# Altium footprint library 6_to_14_Pin.PcbLib: 74 footprints (part 4 of 5)
Each footprint in its own frame and in the unit in brackets; x right, y up, seen from the top. Pads: shape width x height; smd on the part's side, far side on the other; paste and mask are expansions set on the pad; w line width, h text height; cw(c..) or ccw(c..) is an arc to the next point about the centre after c.
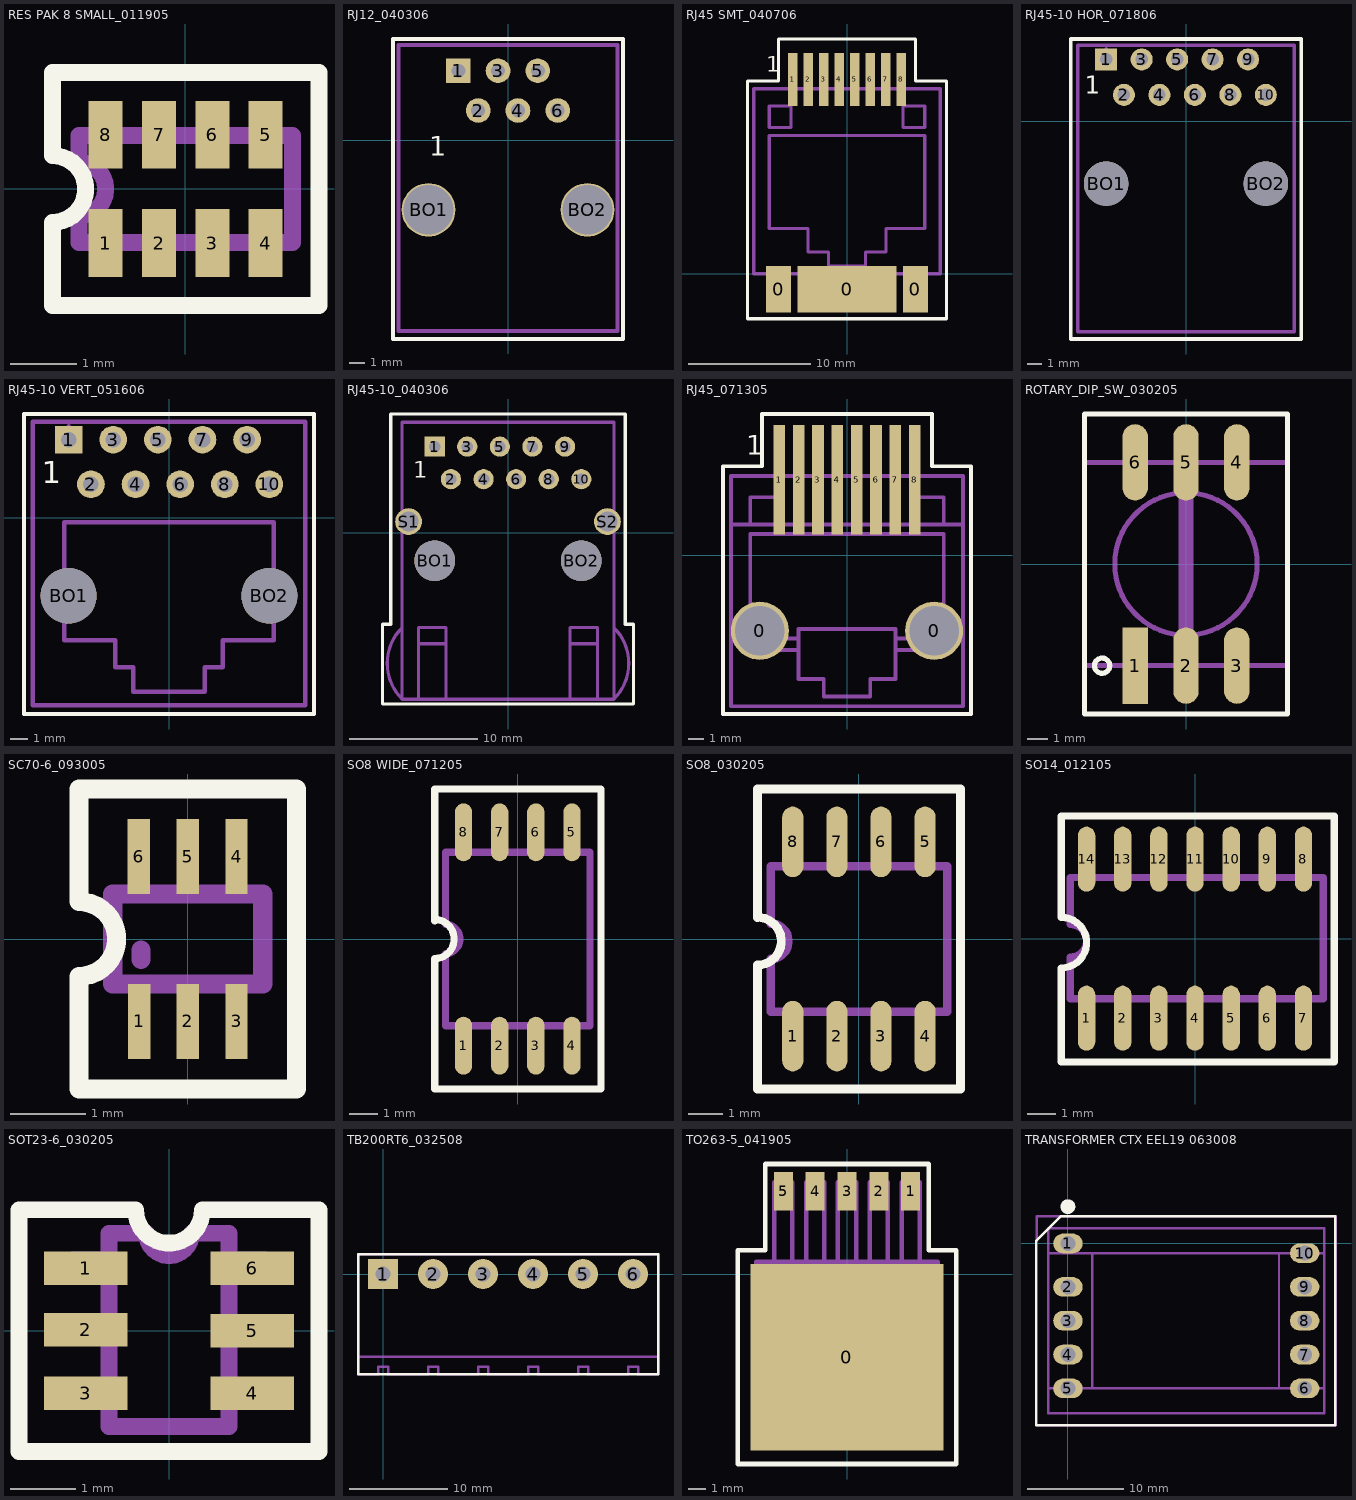
[diagram p3: the footprints below, top view; thin cyan lines are the x and y axes]

## RES PAK 8 SMALL_011905 [mil] "SMT"
height 16
pads (8):
  rect 20x40 smd mask+1.5: 1(-47,-32) 2(-15.5,-32) 3(15.99,-32) 4(47.49,-32) 5(47.49,32) 6(15.99,32) 7(-15.5,32) 8(-47,32)
Top Overlay:
  lines w10: -78.5,-69 78.98,-69 78.98,68.8 12.05,68.8 -78.5,68.8 -78.5,19.59 cw(c-78.5,-0.1) -78.5,-19.78 -78.5,-69
Assembly Outline:
  lines w10: -62.75,-31.59 63.24,-31.59 63.24,31.4 -62.75,31.4 -62.75,15.65 cw(c-62.75,-0.1) -62.75,-15.85 -62.75,-31.59
Assembly Designator:
  text ".Designator" at -80,-32 h40
Assembly Comment:
  text ".Comment" at -61,43 h40

## RJ12_040306 [mil] "TH"
height 600
pads (8):
  rect 62x62 hole 35: 1(-125,175)
  round 62 hole 35: 2(-75,75) 3(-25,175) 4(25,75) 5(75,175) 6(125,75)
  round 135 hole 125: BO1(-200,-175) BO2(200,-175)
Top Overlay:
  lines w10: 230,255 290,255 ; 290,255 290,-500 235,-500 -290,-500 -290,255 35,255 290,255
  text "1" at -197.84,-39.13 h50
Assembly Outline:
  lines w10: -275,-480 -275,240 275,240 275,-175 275,-480 -275,-480
Assembly Designator:
  text ".Designator" at -65,-195 h40
Assembly Comment:
  text ".Comment" at -155,-345 h40

## RJ45 SMT_040706 [mil] "SMT"
height 510
pads (11):
  rect 80x150 smd: 0(-220,-50) 0(220,-50)
  rect 320x150 smd: 0(0,-50)
  rect 30x170 smd mask+1.5: 1(-175,625) 2(-125,625) 3(-75,625) 4(-25,625) 5(25,625) 6(75,625) 7(125,625) 8(175,625)
Top Overlay:
  lines w10: -320,-145 320,-145 320,-20 320,390 320,620 220,620 220,755 0,755 -220,755 -220,620 -320,620 -320,390 -320,-20 -320,-145
  text "1" at -260,650 h50
Assembly Outline:
  lines w10: -250,0 -250,-80 -190,-80 -190,0 ; -180,595 -180,675 -170,675 -170,595 ; -150,0 -150,-90 0,-90 150,-90 150,0 ; -130,595 -130,675 -120,675 -120,595 ; -80,595 -80,675 -70,675 -70,595 ; -30,595 -30,675 -20,675 -20,595 ; 20,595 20,675 30,675 30,595 ; 70,595 70,675 80,675 80,595 ; 120,595 120,675 130,675 130,595 ; 170,595 170,675 180,675 180,595 ; 190,0 190,-80 250,-80 250,0 300,0 ; 300,470 300,595 ; 300,0 300,595 ; 300,0 -300,0 -300,595 300,595 ; -250,145 -250,445 0,445 250,445 250,145 125,145 125,70 60,70 60,25 0,25 -60,25 -60,70 -125,70 -125,145 -250,145 ; -250,470 -180,470 -180,540 -250,540 -250,470 ; 180,470 250,470 250,540 180,540 180,470
Assembly Designator:
  text ".Designator" at -50,305 h40
Assembly Comment:
  text ".Comment" at -130,240 h40

## RJ45-10 HOR_071806 [mil] "TH"
height 528.35
pads (12):
  rect 62x62 hole 35: 1(-225,175)
  round 62 hole 35: 2(-175,75) 3(-125,175) 4(-75,75) 5(-25,175) 6(25,75) 7(75,175) 8(125,75) 9(175,175) 10(225,75)
  round 125 hole 125 unplated: BO1(-225,-175) BO2(225,-175)
Top Overlay:
  lines w10: -325,-613.07 325,-613.07 325,-440 325,0 325,232.5 0,232.5 -325,232.5 -325,0 -325,-440 -325,-613.07
  text "1" at -285,77.5 h50
Assembly Outline:
  lines w10: -305,-420 -305,215 ; -225,175 -225,205 ; -305,215 305,215 305,-420 305,-593.07 -305,-593.07 -305,215
Assembly Designator:
  text ".Designator" at -53.03,-178.7 h40
Assembly Comment:
  text ".Comment" at -66.81,-286.97 h40

## RJ45-10 VERT_051606 [mil] "TH"
height 645
pads (12):
  rect 62x62 hole 35: 1(-225,175)
  round 62 hole 35: 2(-175,75) 3(-125,175) 4(-75,75) 5(-25,175) 6(25,75) 7(75,175) 8(125,75) 9(175,175) 10(225,75)
  round 125 hole 125 unplated: BO1(-225,-175) BO2(225,-175)
Top Overlay:
  lines w10: -325,-440 -325,0 -325,232.5 0,232.5 325,232.5 325,0 325,-440 -325,-440
  text "1" at -285,77.5 h50
Assembly Outline:
  lines w10: -225,-420 0,-420 ; -225,175 -225,205 ; -305,-420 305,-420 305,215 -305,215 -305,-420 ; -235,-275 -235,-10 0,-10 235,-10 235,-275 120,-275 120,-335 80,-335 80,-390 0,-390 -80,-390 -80,-335 -120,-335 -120,-275 -235,-275
Assembly Designator:
  text ".Designator" at -52.5,-87.5 h40
Assembly Comment:
  text ".Comment" at -207.5,-312.5 h40

## RJ45-10_040306 [mil] "TH"
height 600
pads (14):
  rect 62x62 hole 35: 1(-225,265)
  round 62 hole 35: 2(-175,165) 3(-125,265) 4(-75,165) 5(-25,265) 6(25,165) 7(75,265) 8(125,165) 9(175,265) 10(225,165)
  round 125 hole 125 unplated: BO1(-225,-85) BO2(225,-85)
  round 82 hole 62 unplated: S1(-305,35) S2(305,35)
Top Overlay:
  lines w10: -385,-525 -385,-280 -360,-280 -360,100 -360,365 360,365 360,100 360,-280 385,-280 385,-525 0,-525 -385,-525
  text "1" at -290,170 h50
Assembly Outline:
  lines w10: -325,-290 ccw(c-215,-400) -325,-510 ; -275,-510 -275,-290 -190,-290 ; -275,-340 -190,-340 -190,-290 ; -190,-510 -190,-290 ; 190,-510 190,-290 ; 275,-340 190,-340 190,-290 ; 325,-400 325,-510 ; -325,-510 325,-510 ; -325,-510 -325,-336 -325,99 -325,340 325,340 325,99 325,-336 325,-510 ; 190,-290 275,-290 275,-510 325,-510 ; 325,-510 ccw(c215,-400) 325,-290 325,-510
Assembly Designator:
  text ".Designator" at -35,-180 h40
Assembly Comment:
  text ".Comment" at -100,-260 h40

## RJ45_071305 [mil] "SMT"
height 570
pads (10):
  round 150 hole 128 mask+1.5: 0(-225,-195) 0(225,-195)
  rect 30x283 smd mask+1.5: 1(-175,195) 2(-125,195) 3(-75,195) 4(-25,195) 5(25,195) 6(75,195) 7(125,195) 8(175,195)
Top Overlay:
  lines w10: -320,-410 -320,0 -320,230 -220,230 -220,365 0,365 220,365 220,230 320,230 320,0 320,-410 225,-410 0,-410 -225,-410 -320,-410
  text "1" at -260,260 h50
Assembly Outline:
  lines w10: -300,80 300,80 300,205 ; -250,-215 -125,-215 ; -250,80 -250,150 -180,150 -180,80 ; -180,205 -180,295 -170,295 ; -175,295 -170,295 ; -170,205 -170,295 ; -130,205 -130,295 -120,295 ; -125,295 -120,295 ; -120,205 -120,295 ; -80,205 -80,295 -70,295 ; -75,295 -70,295 ; -70,205 -70,295 ; -30,205 -30,295 -20,295 ; -25,295 -20,295 ; -20,205 -20,295 ; 20,205 20,295 30,295 ; 25,295 30,295 ; 30,205 30,295 ; 70,205 70,295 80,295 ; 75,295 80,295 ; 80,205 80,295 ; 120,205 120,295 130,295 ; 125,-215 250,-215 ; 125,295 130,295 ; 130,205 130,295 ; 170,205 170,295 180,295 ; 175,295 180,295 ; 180,80 180,150 250,150 250,80 ; 180,205 180,295 ; -125,-245 -125,-190 0,-190 125,-190 125,-245 ; -125,-245 -125,-320 -60,-320 -60,-365 0,-365 60,-365 60,-320 125,-320 125,-245 ; -125,-245 -250,-245 -250,55 0,55 250,55 250,-245 125,-245 ; 300,205 -300,205 -300,-390 300,-390 300,205
Assembly Designator:
  text ".Designator" at -50,-85 h40
Assembly Comment:
  text ".Comment" at -130,-150 h40

## ROTARY_DIP_SW_030205 [mil] "SMT"
height 370
pads (6):
  rect 50x150 smd: 1(-100,-200)
  oval 50x150 smd: 2(0,-200) 3(100,-200) 4(100,200) 5(0,200) 6(-100,200)
Top Overlay:
  circle w10: c-165,-200 r15
  lines w10: -200,-295 200,-295 200,295 -200,295 -200,-295
Assembly Outline:
  circle w10: c0,0 r140
  region: -110,255 -110,200 -90,200 -90,255
  region: -10,255 -10,200 10,200 10,255
  region: 90,255 90,200 110,200 110,255
  region: 110,-255 110,-200 90,-200 90,-255
  region: -90,-255 -90,-200 -110,-200 -110,-255
  region: 10,-255 10,-200 -10,-200 -10,-255
  lines w10: -200,-200 200,-200 200,200 -200,200 -200,-200
  lines w30: 0,-130 0,130
Assembly Designator:
  text ".Designator" at -43,-77 h40
Assembly Comment:
  text ".Comment" at 186,-182 h40

## SC70-6_093005 [mm] "SMT"
height 1
pads (6):
  rect 0.3x1 smd mask+0.038: 1(-0.65,-1.1) 2(0,-1.1) 3(0.65,-1.1) 4(0.65,1.1) 5(0,1.1) 6(-0.65,1.1)
Top Overlay:
  lines w0.254: -1.45,-2 -0.375,-2 1.45,-2 1.45,0 1.45,2 0.375,2 -1.45,2 -1.45,0.5 cw(c-1.45,0) -1.45,-0.5 -1.45,-2
Assembly Outline:
  lines w0.254: -1,0 -1,0.6 ; -0.65,-1.1 -0.65,-0.6 ; -0.65,0.6 -0.65,1.1 ; -0.625,-0.275 -0.625,-0.15 ; 0,-1.1 0,-0.6 ; 0,1.1 0,0.6 -1,0.6 ; 0.65,-1.1 0.65,-0.6 ; 0.65,0.6 0.65,1.1 ; -1,-0.6 1,-0.6 ; -1,-0.6 -1,0.6 ; -1,-0.6 1,-0.6 ; -1,0.6 1,0.6 1,-0.6
Assembly Designator:
  text ".Designator" at 1.8,-0.475 h1.02
Assembly Comment:
  text ".Comment" at -1.825,-3.5 h1.02

## SO8 WIDE_071205 [mil] "SMT"
height 80
pads (8):
  oval 24x80 smd: 1(-75,-147.5) 2(-25,-147.5) 3(25,-147.5) 4(75,-147.5) 5(75,147.5) 6(25,147.5) 7(-25,147.5) 8(-75,147.5)
Top Overlay:
  lines w10: -115,25 -115,207.5 115,207.5 115,-207.5 -115,-207.5 -115,-27.04 ccw(c-115,0) -115,27.04
Assembly Outline:
  lines w10: -80,-120 -80,-147.5 -70,-147.5 -70,-120 ; -80,120 -80,147.5 -70,147.5 -70,120 ; -30,-120 -30,-147.5 -20,-147.5 -20,-120 ; -30,120 -30,147.5 -20,147.5 -20,120 ; 20,-120 20,-147.5 30,-147.5 30,-120 ; 20,120 20,147.5 30,147.5 30,120 ; 70,-120 70,-147.5 80,-147.5 80,-120 ; 70,120 70,147.5 80,147.5 80,120 ; -100,-120 100,-120 100,120 -100,120 -100,20 cw(c-100,0) -100,-20 -100,-120
Assembly Designator:
  text ".Designator" at -55,-15.5 h40
Assembly Comment:
  text ".Comment" at -116,-229.5 h40

## SO8_030205 [mil] "SMT"
height 70
pads (8):
  oval 24x80 smd: 1(-75,-110) 2(-25,-110) 3(25,-110) 4(75,-110) 5(75,110) 6(25,110) 7(-25,110) 8(-75,110)
Top Overlay:
  lines w10: -115,-170 -115,-29.54 ccw(c-115,-2.5) -115,24.54 -115,170 115,170 115,-170 -115,-170
Assembly Outline:
  lines w10: -80,-82.5 -80,-110 -70,-110 -70,-82.5 ; -80,82.5 -80,110 -70,110 -70,82.5 ; -30,-82.5 -30,-110 -20,-110 -20,-82.5 ; -30,82.5 -30,110 -20,110 -20,82.5 ; 20,-82.5 20,-110 30,-110 30,-82.5 ; 20,82.5 20,110 30,110 30,82.5 ; 70,-82.5 70,-110 80,-110 80,-82.5 ; 70,82.5 70,110 80,110 80,82.5 ; -100,-82.5 -100,-22.5 ccw(c-100,-2.5) -100,17.5 -100,82.5 100,82.5 100,-82.5 -100,-82.5
Assembly Designator:
  text ".Designator" at -55,22 h40
Assembly Comment:
  text ".Comment" at -116,-192 h40

## SO14_012105 [mil] "SMT"
height 75
pads (14):
  oval 24x90 smd: 1(-150,-110) 2(-100,-110) 3(-50,-110) 4(0,-110) 5(50,-110) 6(100,-110) 7(150,-110) 8(150,110) 9(100,110) 10(50,110) 11(0,110) 12(-50,110) 13(-100,110) 14(-150,110)
Top Overlay:
  lines w10: -185,-170.46 -185,-40.46 ccw(c-185,-5.46) -185,29.54 -185,169.54 192.5,169.54 192.5,-170.46 -185,-170.46
Assembly Outline:
  lines w10: -155,84.54 -155,112.04 -145,112.04 -145,84.54 ; -145,-82.96 -145,-110.46 -155,-110.46 -155,-82.96 ; -105,-82.96 -105,-110.46 -95,-110.46 -95,-82.96 ; -105,84.54 -105,112.04 -95,112.04 -95,84.54 ; -55,-82.96 -55,-110.46 -45,-110.46 -45,-82.96 ; -55,84.54 -55,112.04 -45,112.04 -45,84.54 ; -5,-82.96 -5,-110.46 5,-110.46 5,-82.96 ; -5,84.54 -5,112.04 5,112.04 5,84.54 ; 45,-82.96 45,-110.46 55,-110.46 55,-82.96 ; 45,84.54 45,112.04 55,112.04 55,84.54 ; 95,-82.96 95,-110.46 105,-110.46 105,-82.96 ; 95,84.54 95,112.04 105,112.04 105,84.54 ; 145,-82.96 145,-110.46 155,-110.46 155,-82.96 ; 145,84.54 145,112.04 155,112.04 155,84.54 ; -155,-82.96 -172.5,-82.96 -172.5,-25.46 ccw(c-172.5,-2.96) -172.5,19.54 -172.5,84.54 177.5,84.54 177.5,-82.96 -155,-82.96
Assembly Designator:
  text ".Designator" at -72,-56 h40
Assembly Comment:
  text ".Comment" at -143,17 h40

## SOT23-6_030205 [mil] "SMT"
height 50
pads (6):
  rect 50x20 smd mask+1.5: 1(-50,37.5) 2(-50,0.5) 3(-50,-37.5) 4(50,-37.5) 5(50,0) 6(50,37.5)
Top Overlay:
  lines w10: -90,-72.5 90,-72.5 90,72.5 20,72.5 cw(c0,72.5) -20,72.5 -90,72.5 -90,-37.5 -90,-72.5
Assembly Outline:
  lines w10: -36,-41.5 -58,-41.5 -58,-33.5 -38,-33.5 -36,-31.5 ; -36,-3.5 -58,-3.5 -58,4.5 -36,4.5 ; -36,34.5 -58,34.5 -58,42.5 -36,42.5 ; 36,-41.5 58,-41.5 58,-33.5 36,-33.5 ; 36,-3.5 58,-3.5 58,4.5 36,4.5 ; 36,34.5 58,34.5 58,42.5 36,42.5 ; -36,-57.5 -36,58.5 -13.5,58.5 ccw(c0,58.5) 13.5,58.5 36,58.5 36,-57.5 -36,-57.5
Assembly Designator:
  text ".Designator" at -20,45 h40
Assembly Comment:
  text ".Comment" at 84,69 h40

## TB200RT6_032508 [mil] "TH"
height 0.35
pads (6):
  rect 120x120 hole 60: 1(0,0)
  round 120 hole 60: 2(200,0) 3(400,0) 4(600,0) 5(800,0) 6(1000,0)
Top Overlay:
  lines w10: -100,-400 1100,-400 1100,80 -100,80 -100,-400
Assembly Outline:
  lines w10: -100,-330 1100,-330 ; -100,-400 -20,-400 -20,-370 20,-370 20,-400 180,-400 180,-370 220,-370 220,-400 380,-400 380,-370 420,-370 420,-400 580,-400 580,-370 620,-370 620,-400 780,-400 780,-370 820,-370 820,-400 980,-400 980,-370 1020,-370 1020,-400 1100,-400 1100,80 -100,80 -100,-400
Assembly Designator:
  text ".Designator" at 470,-190 h40
Assembly Comment:
  text ".Comment" at -9,-295 h40

## TO263-5_041905 [mil] "SMT"
height 181.1
pads (6):
  rect 425x410 smd: 0(0,-182.5)
  rect 42x85 smd: 1(140,182.5) 2(70,182.5) 3(0,182.5) 4(-70,182.5) 5(-140,182.5)
Top Overlay:
  lines w10: -240,-417.5 -240,52.5 -180,52.5 -180,242.5 180,242.5 180,52.5 240,52.5 240,-417.5 0,-417.5 -240,-417.5
Assembly Outline:
  lines w10: -160,27.5 -160,202.5 ; -140,27.5 -70,27.5 0,27.5 70,27.5 140,27.5 ; -120,27.5 -120,202.5 ; -90,27.5 -90,202.5 ; -50,27.5 -50,202.5 ; -20,27.5 -20,202.5 ; 20,27.5 20,202.5 ; 50,27.5 50,202.5 ; 90,27.5 90,202.5 ; 120,27.5 120,202.5 ; 160,27.5 160,202.5 ; -200,-312.5 -200,27.5 200,27.5 200,-312.5 ; -200,-312.5 -130,-362.5 0,-362.5 130,-362.5 200,-312.5 ; -200,-312.5 200,-312.5 ; -160,202.5 -120,202.5 ; -160,202.5 -140,202.5 -120,202.5 ; -90,202.5 -50,202.5 ; -90,202.5 -70,202.5 -50,202.5 ; -20,202.5 20,202.5 ; -20,202.5 0,202.5 20,202.5 ; 50,202.5 90,202.5 ; 50,202.5 70,202.5 90,202.5 ; 120,202.5 160,202.5 ; 120,202.5 140,202.5 160,202.5
Assembly Designator:
  text ".Designator" at -52,-204.5 h40
Assembly Comment:
  text ".Comment" at -76,-100.5 h40

## TRANSFORMER CTX EEL19 063008 [mil] "TH"
height 60
pads (10):
  oval 120x80 hole 60: 1(0,0) 2(0,-177.17) 3(0,-314.96) 4(0,-452.76) 5(0,-590.55) 6(964.57,-590.55) 7(964.57,-452.76) 8(964.57,-314.96) 9(964.57,-177.17) 10(964.57,-39.37)
Top Overlay:
  circle w30: c0,150 r15
  lines w10: -130,-740 1090,-740 1090,110 -30,110 -130,10 -130,-740
Assembly Outline:
  lines w10: -80,-590 100,-590 ; -80,-40 100,-40 ; -80,60 -80,-692.2 1044.57,-692.2 1044.57,62.28 -77.72,62.28 ; 1044.57,-590 860,-590 ; 1044.57,-40 860,-40 ; 100,-590 860,-590 ; 100,-590 100,-40 ; 100,-40 860,-40 ; 860,-590 860,-40 ; -127.72,-739.92 -127.72,110 1092.28,110 1092.28,-739.92 -127.72,-739.92
Assembly Designator:
  text ".Designator" at 400,-280 h40
Assembly Comment:
  text ".Comment" at 150,-520 h40